# EAGLE library part RJ45-LMJ201881 (library JLB6_Connec)
Amphenol RJ45 with magnetics, leds up LMJ201881
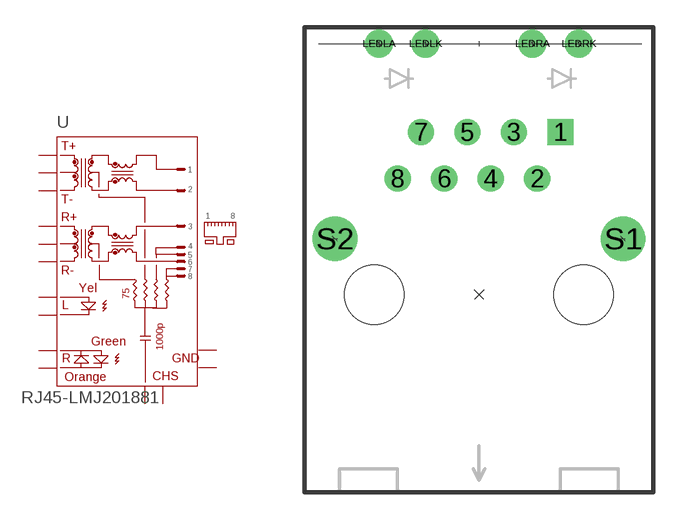
[diagram p68: symbol with the pads of RJ45-LMJ20188; footprint RJ45-LMJ20188]

Designator prefix -

## RJ45-LMJ201881  [RJ45-LMJ20188]
1  TD+
2  TD-
3  TCT
4  G1
5  G2
6  RCT
7  RD+
8  RD-
LEDLA  LLA
LEDLK  LLC
LEDRA  LRA
LEDRK  LRC
S1  GND1
S2  GND2

## Footprint RJ45-LMJ20188 (pad centres in mm)
drill 0.914 square: 1 4.445,8.89
drill 0.914: 2 3.175,6.35; 3 1.905,8.89; 4 0.635,6.35; 5 -0.635,8.89; 6 -1.905,6.35; 7 -3.175,8.89; 8 -4.445,6.35
drill 1.016: LEDLA -5.461,13.716; LEDLK -2.921,13.716; LEDRA 2.921,13.716; LEDRK 5.461,13.716
drill 1.626: S1 7.874,3.048; S2 -7.874,3.048
hole 3.251 at 5.715,0
hole 3.251 at -5.715,0